# Altium footprint library SOD523FZ.PcbLib: 1 footprints
Each footprint in its own frame and in the unit in brackets; x right, y up, seen from the top. Pads: shape width x height; smd on the part's side, far side on the other; paste and mask are expansions set on the pad; w line width, h text height; cw(c..) or ccw(c..) is an arc to the next point about the centre after c.
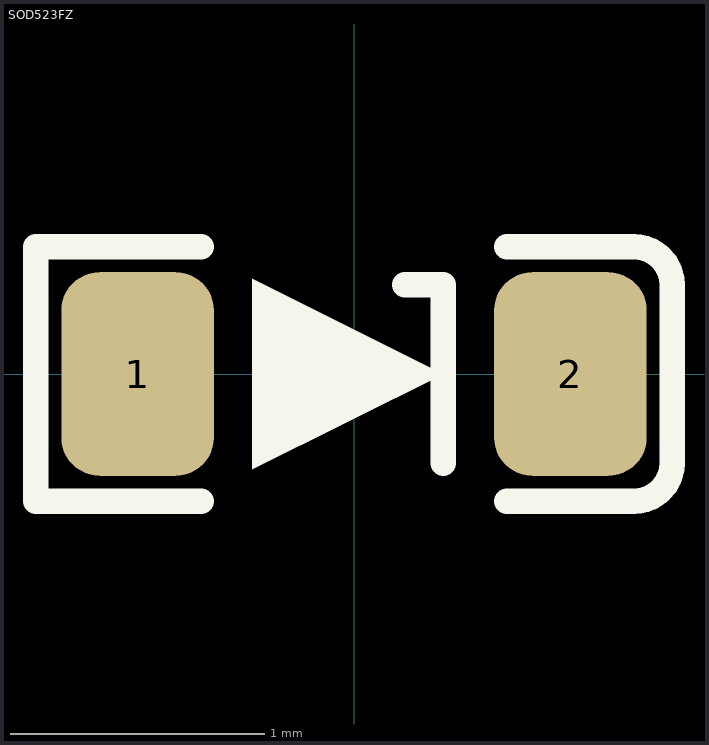
[diagram p0: the footprint, top view; thin cyan lines are the x and y axes]

## SOD523FZ [mm]
pads (2):
  rrect50% 0.6x0.8 smd: 1(-0.85,0) 2(0.85,0)
Top Overlay:
  region: -0.4,0.375 0.35,0 -0.4,-0.375
  lines w0.1: -0.6,-0.5 -1.25,-0.5 -1.25,0.5 -0.6,0.5 ; 0.2,0.35 0.35,0.35 0.35,-0.35 ; 0.6,-0.5 1.1,-0.5 ccw(c1.1,-0.35) 1.25,-0.35 1.25,0.35 ccw(c1.1,0.35) 1.1,0.5 0.6,0.5
3D body "SOD523F.STEP": height 0.7, standoff 0, extent -0.85,-0.45 0.85,0.45